# Altium schematic symbol library WiredModule.SchLib: 2 symbols
Pins are listed as number, name and electrical type; pins without a type are passive.

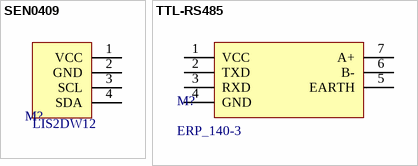
[diagram p0: symbols SEN0409 to TTL-RS485]

## SEN0409
designator M?  value LIS2DW12
GRAVITY LIS2DW12 ACCELEROMETER; Manufacturer 1: DFRobot; Manufacturer Part Number 1: SEN0409
footprint SEN0409
pins: 1 VCC, 2 GND, 3 SCL, 4 SDA

## TTL-RS485
designator M?, comment ERP_140-3
TTL-RS485
footprint TTL-RS485
pins: 1 VCC, 2 TXD, 3 RXD, 4 GND, 5 EARTH, 6 B-, 7 A+